# Altium footprint library PcbLib1.PcbLib: 41 footprints (part 1 of 3)
Each footprint in its own frame and in the unit in brackets; x right, y up, seen from the top. Pads: shape width x height; smd on the part's side, far side on the other; paste and mask are expansions set on the pad; w line width, h text height; cw(c..) or ccw(c..) is an arc to the next point about the centre after c.
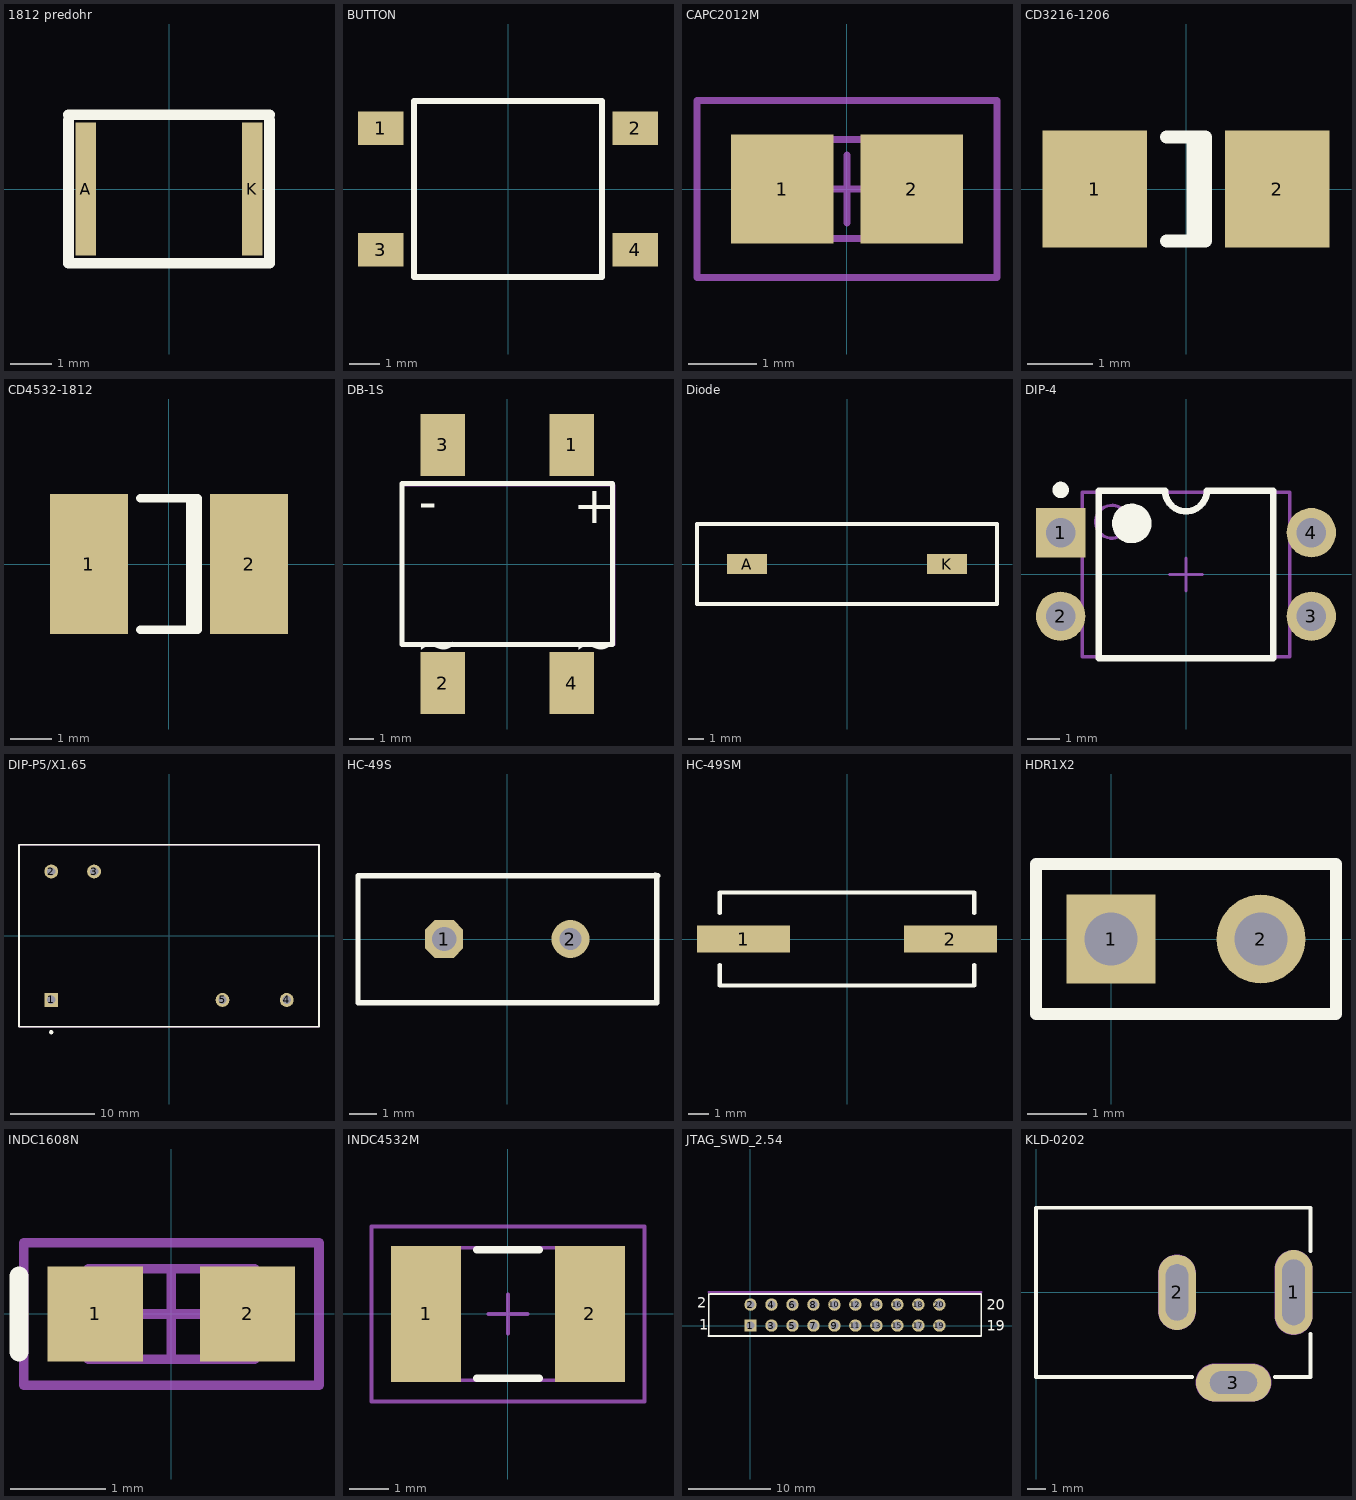
[diagram p0: the footprints below, top view; thin cyan lines are the x and y axes]

## 1812 predohr [mm]
pads (2):
  rect 0.5x3.2 smd: A(-2,0) K(2,0)
Top Overlay:
  lines w0.254: -2.413,1.651 -2.413,0.064 -2.413,-1.778 2.413,-1.778 2.413,0.064 2.413,1.651 ; -2.413,1.778 2.413,1.778
3D body: height 3, standoff 0, extent -2.352,-1.702 2.352,1.702

## BUTTON [mm] "DTSGL-61M"
height 2.5
pads (4):
  rect 1.5x1.1 smd: 1(-4.2,2) 2(4.2,2) 3(-4.2,-2) 4(4.2,-2)
Top Overlay:
  lines w0.2: -3.1,-2.9 -3.1,2.9 3.1,2.9 3.1,-2.9 -3.1,-2.9

## CAPC2012M [mm] "Chip Capacitor, Body 2.0x1.3mm, IPC Low Density"
height 1.1
pads (2):
  rect 1.5x1.6 smd: 1(-0.95,0) 2(0.95,0)
Mechanical 13:
  lines w0.1: -1.1,-0.725 -1.1,0.725 1.1,0.725 1.1,-0.725 -1.1,-0.725
Mechanical 15:
  lines w0.1: -0.5,0 0.5,0 ; 0,-0.5 0,0.5 ; -2.2,-1.3 -2.2,1.3 2.2,1.3 2.2,-1.3 -2.2,-1.3
3D body: height 1.1, standoff 0, extent -1.1,-0.725 1.1,0.725

## CD3216-1206 [mm] "Chip Diode; Body 3.2 x 1.6 mm (LxW typ)"
height 1.35
pads (2):
  rect 1.6x1.8 smd: 1(-1.4,0) 2(1.4,0)
Top Overlay:
  lines w0.2: -0.3,-0.8 0.3,-0.8 0.3,0.8 -0.3,0.8 ; 0.11,-0.8 0.11,0.8

## CD4532-1812 [mm] "Chip Diode; Body 4.5 x 3.2 mm (LxW typ)"
height 1.35
pads (2):
  rect 1.9x3.4 smd: 1(-1.95,0) 2(1.95,0)
Top Overlay:
  lines w0.2: -0.7,-1.6 0.7,-1.6 0.7,1.6 -0.7,1.6 ; 0.51,-1.6 0.51,1.6

## DB-1S [mm] "Bridge Rectifier; 4 Terminals;"
height 2.5
pads (4):
  rect 1.8x2.5 smd: 1(2.6,4.8) 2(-2.6,-4.8) 3(-2.6,4.8) 4(2.6,-4.8)
Top Overlay:
  lines w0.2: -4.25,3.24 4.25,3.24 ; -4.25,3.25 -4.25,-3.25 4.25,-3.25 4.25,3.25
  text "+" at 2.667,1.651 h1.5
  text "-" at -3.556,1.778 h1.5
  text "~" at -3.683,-3.937 h1.5
  text "~" at 2.667,-3.937 h1.5
Mechanical 13:
  lines w0.1: -4.25,-3.25 4.25,-3.25 ; -4.238,-3.25 -4.238,3.175 4.318,3.175 4.318,-3.25
3D body: height 2.5, standoff 0, extent -4.285,-3.25 4.318,3.222

## Diode [mm]
pads (2):
  rect 2.54x1.27 smd: A(-6.35,0) K(6.35,0)
Top Overlay:
  lines w0.254: -9.525,-2.54 -9.525,0 -9.525,2.54 9.525,2.54 9.525,-2.54 -9.525,-2.54

## DIP-4 [mm] "DIP; 4 Leads; Row Spacing 7.62 mm; Pitch 2.54 mm"
pads (4):
  rect 1.5x1.5 hole 0.9: 1(-3.81,1.27)
  round 1.5 hole 0.9: 2(-3.81,-1.27) 3(3.81,-1.27) 4(3.81,1.27)
Top Overlay:
  circle w0.6: c-1.65,1.55 r0.3
  circle w0.25: c-3.81,2.57 r0.125
  lines w0.2: -2.65,-2.55 2.65,-2.55 2.65,2.55 0.635,2.55 cw(c0,2.55) -0.635,2.55 -2.65,2.55 -2.65,-2.55
Mechanical 13:
  circle w0.1: c-2.25,1.6 r0.5
  lines w0.1: -3.15,-2.5 3.15,-2.5 3.15,2.5 -3.15,2.5 -3.15,-2.5
Mechanical 15:
  lines w0.1: -0.5,0 0.5,0 ; 0,-0.5 0,0.5
3D body: height 8, standoff 0, extent -3.15,-2.5 3.15,2.5

## DIP-P5/X1.65 [mm] "DIP; 5 Round Pins; Row Space 15.24 mm; Pitch 2.54 mm"
height 14
pads (5):
  rect 1.65x1.65 hole 1: 1(-13.97,-7.62)
  round 1.65 hole 1: 2(-13.97,7.62) 3(-8.89,7.62) 4(13.97,-7.62) 5(6.35,-7.62)
Top Overlay:
  circle w0.25: c-13.97,-11.45 r0.125
  lines w0.2: -17.8,-10.8 17.8,-10.8 17.8,10.8 -17.8,10.8 -17.8,-10.8
Mechanical 13:
  lines w0.1: -17.8,-10.8 -17.8,10.8 17.8,10.8 17.8,-10.8 -17.8,-10.8
3D body: height 14, standoff 0, extent -17.8,-10.8 17.8,10.8

## HC-49S [mm] "Quartz Crystal, Thru-Hole; 2 Leads; Body 11.35 x 4.65 x 13.46 mm (LxWxH max)"
height 13.46
pads (2):
  oct 1.4x1.4 hole 0.9: 1(-2.325,0)
  round 1.4 hole 0.8: 2(2.325,0)
Top Overlay:
  lines w0.2: -5.5,-2.35 5.5,-2.35 ; -5.5,-2.325 -5.5,2.325 5.55,2.325 ; 5.45,2.35 5.5,2.3 5.5,-2.325

## HC-49SM [mm] "Quartz Crystal,"
height 5
pads (2):
  rect 4.5x1.3 smd: 1(-5,0) 2(5,0)
Top Overlay:
  lines w0.2: -6.15,-1.25 -6.15,-2.25 6.15,-2.25 6.15,-1.25 ; -6.15,1.25 -6.15,2.25 6.15,2.25 6.15,1.25

## HDR1X2 [mm] "Connector; Header; 2 Position"
pads (2):
  rect 1.5x1.5 hole 0.9: 1(0,0)
  round 1.5 hole 0.9: 2(2.54,0)
Top Overlay:
  lines w0.2: -1.27,-1.27 3.81,-1.27 3.81,1.27 -1.27,1.27 -1.27,-1.27

## INDC1608N [mm] "Chip Inductor, Body 1.6x0.8mm, IPC Medium Density"
height 0.71
pads (2):
  rect 1x1 smd: 1(-0.8,0) 2(0.8,0)
Top Overlay:
  lines w0.2: -1.6,-0.4 -1.6,0.4
Mechanical 13:
  lines w0.1: -0.875,-0.475 -0.875,0.475 0.875,0.475 0.875,-0.475 -0.875,-0.475
Mechanical 15:
  lines w0.1: -0.475,0 0.475,0 ; 0,-0.475 0,0.475 ; -1.55,-0.75 -1.55,0.75 1.55,0.75 1.55,-0.75 -1.55,-0.75
3D body: height 0.71, standoff 0, extent -0.875,-0.475 0.875,0.475

## INDC4532M [mm] "Chip Inductor, Body 4.5x3.2mm, IPC Low Density"
height 1.35
pads (2):
  rect 1.8x3.5 smd: 1(-2.1,0) 2(2.1,0)
Top Overlay:
  lines w0.2: -0.8,-1.65 0.8,-1.65 ; -0.8,1.65 0.8,1.65
Mechanical 13:
  lines w0.1: -2.4,-1.7 -2.4,1.7 2.4,1.7 2.4,-1.7 -2.4,-1.7
Mechanical 15:
  lines w0.1: -0.5,0 0.5,0 ; 0,-0.5 0,0.5 ; -3.5,-2.25 -3.5,2.25 3.5,2.25 3.5,-2.25 -3.5,-2.25
3D body: height 1.35, standoff 0, extent -2.4,-1.7 2.4,1.7

## JTAG_SWD_2.54 [mm] "Connector; Header; 10x2 Position"
pads (20):
  rect 1.5x1.5 hole 1: 1(0,0)
  round 1.5 hole 1: 2(0,2.54) 3(2.54,0) 4(2.54,2.54) 5(5.08,0) 6(5.08,2.54) 7(7.62,0) 8(7.62,2.54) 9(10.16,0) 10(10.16,2.54) 11(12.7,0) 12(12.7,2.54) 13(15.24,0) 14(15.24,2.54) 15(17.78,0) 16(17.78,2.54) 17(20.32,0) 18(20.32,2.54) 19(22.86,0) 20(22.86,2.54)
Top Overlay:
  lines w0.2: -5.08,-1.27 0.635,-1.27 27.94,-1.27 ; -5.07,-1.27 -5.07,3.81 ; -4.953,3.81 0.635,3.81 27.94,3.81 ; 27.93,-1.27 27.93,3.81
  text "20" at 28.575,1.905 h1.27
  text "19" at 28.575,-0.635 h1.27
  text "1" at -6.223,-0.508 h1.27
  text "2" at -6.477,2.159 h1.27
Mechanical 13:
  lines w0.254: -5.08,4.064 27.94,4.064

## KLD-0202 [mm]
pads (3):
  oval 2x4.5 hole 1.2 slot 3.5 at 90 deg: 1(13.7,0)
  oval 2x4 hole 1.2 slot 3 at 90 deg: 2(7.5,0)
  oval 4x2 hole 1.2 slot 2.5 at 0 deg: 3(10.5,-4.8)
Top Overlay:
  lines w0.2: 8.3,-4.5 0,-4.5 0,4.5 14.6,4.5 14.6,2.2 ; 12.7,-4.5 14.6,-4.5 14.6,-2.2
Mechanical 1:
  text "Mech 2 - Clearance, move to internal plane if present" at 0.286,5.066 h0.3
  text "Mech 1 - Slot cut-out" at 0.286,5.566 h0.3
  text "Assign keep-out area to slot" at 0.286,6.566 h0.3
  text "Alert PCB fab to slot details" at 0.286,6.066 h0.3
Mechanical 2:
  lines w2.016: 7.5,-1 7.5,1 ; 9.5,-4.8 11.5,-4.8 ; 13.7,-1.25 13.7,1.25